# EAGLE library part CSD18514Q5A (library CSD18514Q5A)
40V, N ch NexFET MOSFET, single SON5x6, 4.9mOhm Source: Datasheet <http://www.ti.com/lit/gpn/csd18514q5a>
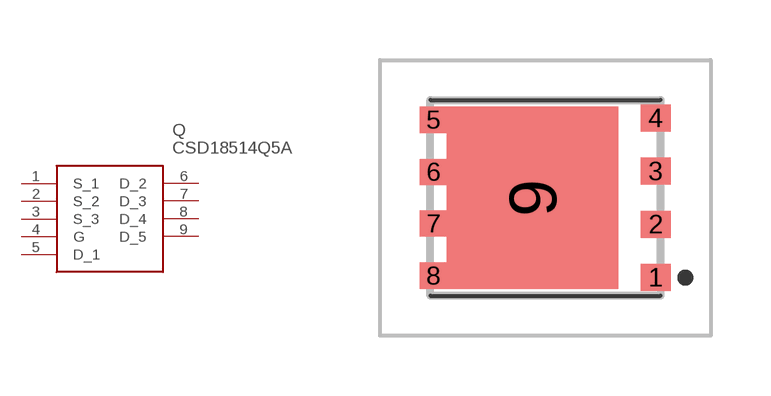
[diagram p0: symbol with the pads of CSD18514Q5A; footprint CSD18514Q5A]

Designator prefix Q

## CSD18514Q5A (Arrow_Part_Number: CSD18514Q5A; Arrow_Price-Stock: https://www.arrow.com/en/products/csd18514q5a/texas-instruments?utm_currency=USD&region=nac; Description: 40V, N ch NexFET MOSFET, single SON5x6, 4.9mOhm; Height: 1.1mm; Manufacturer_Name: Texas Instruments; Manufacturer_Part_Number: CSD18514Q5A; Mouser_Part_Number: 595-CSD18514Q5A; Mouser_Price-Stock: https://www.mouser.co.uk/ProductDetail/Texas-Instruments/CSD18514Q5A?qs=34RfhUjJmKfubXTJ%252BbkIEA%3D%3D)  [CSD18514Q5A]
1  S_1
2  S_2
3  S_3
4  G
5  D_1
6  D_2
7  D_3
8  D_4
9  D_5

## Footprint CSD18514Q5A (pad centres in mm)
DQJ008A
smd 0.75 x 0.675: 1 2.757,-1.995; 2 2.757,-0.665; 3 2.757,0.665; 4 2.757,1.995
smd 0.675 x 0.655: 5 -2.795,1.952; 6 -2.795,0.647; 7 -2.795,-0.647; 8 -2.795,-1.952
smd 4.295 x 4.56: 9 -0.32,0